# Altium schematic symbol library capacitor.SchLib: 1 symbol
Pins are listed as number, name and electrical type; pins without a type are passive.

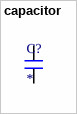
[diagram p0: symbol capacitor]

## capacitor
designator C?
footprint 0805
pins: 1, 2  